# Altium integrated library SRR1260-101M.IntLib: 1 symbol
Pins are listed as number, name and electrical type; pins without a type are passive.

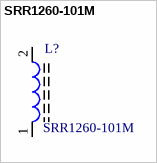
[diagram p0: symbol SRR1260-101M]

## SRR1260-101M
designator L?
/ Inductor Power Shielded Wirewound 100uH 20% 100KHz 26Q-Factor Ferrite 1.7A 180mOhm DCR T/R /; MF: Bourns; SnapEDA_Link: https://www.snapeda.com/parts/SRR1260-101M/Bourns/view-part/?ref=snap; Availability: Unavailable; Price: None; MP: SRR1260-101M; Package: Nonstandard Bourns; Value: *
footprint *INDP125125X600N
pins: 1, 2